# Altium footprint library WH-BLE103.PcbLib: 1 footprints
Each footprint in its own frame and in the unit in brackets; x right, y up, seen from the top. Pads: shape width x height; smd on the part's side, far side on the other; paste and mask are expansions set on the pad; w line width, h text height; cw(c..) or ccw(c..) is an arc to the next point about the centre after c.
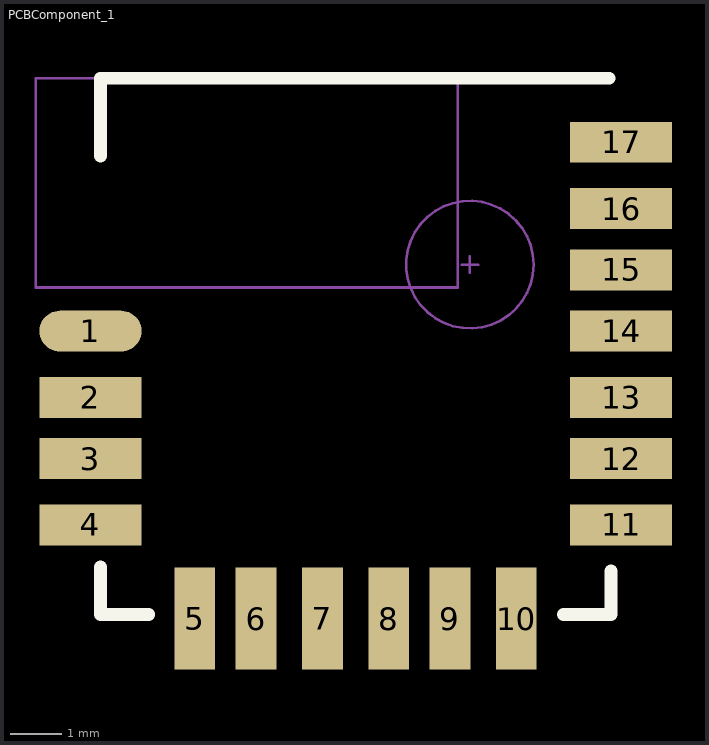
[diagram p0: the footprint, top view; thin cyan lines are the x and y axes]

## PCBComponent_1 [mm]
pads (17):
  oval 2x0.8 smd: 1(-351.99,-838.996)
  rect 2x0.8 smd: 2(-351.99,-840.296) 3(-351.99,-841.496) 4(-351.99,-842.796) 11(-341.59,-842.796) 12(-341.59,-841.496) 13(-341.59,-840.296) 14(-341.59,-838.996) 15(-341.59,-837.796) 16(-341.59,-836.596) 17(-341.59,-835.296)
  rect 0.8x2 smd: 5(-349.944,-844.632) 6(-348.744,-844.632) 7(-347.444,-844.632) 8(-346.144,-844.632) 9(-344.944,-844.632) 10(-343.644,-844.632)
Top Overlay:
  lines w0.254: -351.79,-843.621 -351.79,-844.55 -350.847,-844.55 ; -351.79,-835.567 -351.79,-834.042 -341.83,-834.042 ; -342.719,-844.55 -341.79,-844.55 -341.79,-843.695
Mechanical 5:
  circle w0.051: c-344.555,-837.693 r1.25
  lines w0.051: -344.715,-837.693 -344.555,-837.693 ; -344.555,-837.853 -344.555,-837.693 ; -344.555,-837.533 -344.555,-837.693 ; -344.395,-837.693 -344.555,-837.693 ; -353.06,-838.142 -344.79,-838.142 -344.79,-834.042 -353.06,-834.042 -353.06,-838.142